# EAGLE library part MAX8713 (library diode-20CJQ030)
Maxim's MAX8713 Simplified Multichemistry SMBus Battery Charger Description: The MAX8713 multichemistry battery charger simplifies construction of smart chargers with a minimum number of external components. It uses the Intel System Management Bus (SMBus?) to control the charge voltage and charge current. High efficiency is achieved through the use of a constant off-time step-down topology with synchronous rectification. The MAX8713 charges one to four lithium-ion (Li+) cells in series and delivers over 2A charge current?scalable with the sense resistor. The MAX8713 drives n-channel MOSFETs for improved efficiency and reduced cost. A low-offset charge-current-sense amplifier provides highaccuracy charge current with small sense resistors. The MAX8713 is available in a space-saving 24-pin 4mm x 4mm thin QFN package and operates over the extended (-40°C to +85°C) temperature range. An evaluation kit is available to reduce design time. Features: Over 2A Charge Current Intel SMBus 2-Wire Serial Interface ±0.6% Charge Voltage Accuracy 11-Bit Charge Voltage Resolution 6-Bit Charge Current Resolution Adjustable Switching Frequency +8V to +28V Input Voltage Range Cycle-By-Cycle Current Limit Charges Any Battery Chemistry (Li+, NiCd, NiMH,Lead Acid, etc.) Small 24-Pin TQFN Applications: Handset Car Kits Digital Cameras PDAs and Tablet Computers Notebook Computers Portable Equipment with Rechargeable Batteries Please send any comments to: messi@users.sourceforge.net
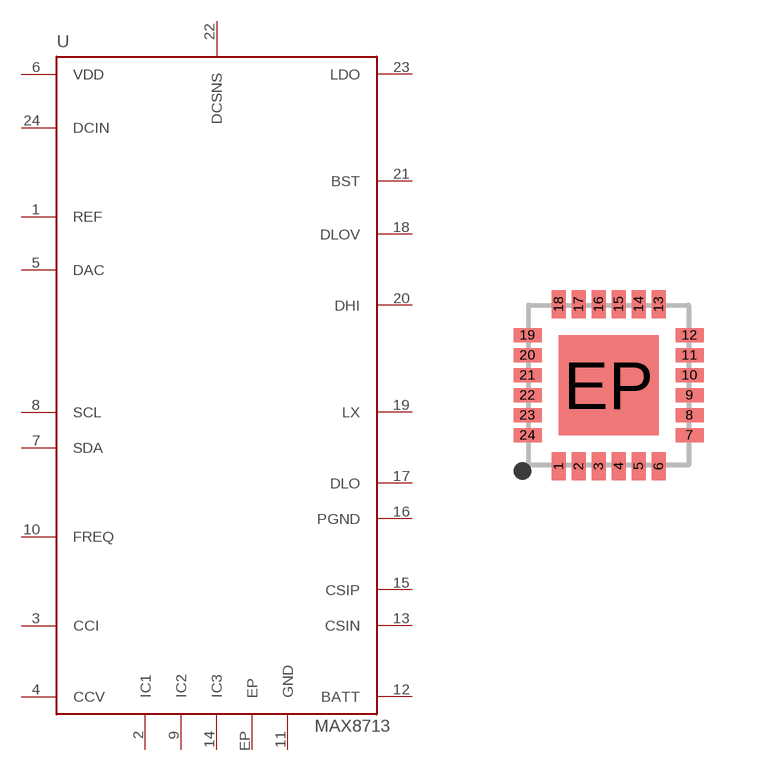
[diagram p142: symbol with the pads of TQFN24; footprint TQFN24]

Designator prefix U

## MAX8713  [TQFN24]
1  REF  out
2  IC1  pas
3  CCI  in
4  CCV  in
5  DAC  out
6  VDD  pwr
7  SDA
8  SCL  in
9  IC2  pas
10  FREQ  in
11  GND  pwr
12  BATT  in
13  CSIN  in
14  IC3  pas
15  CSIP  in
16  PGND  pwr
17  DLO  out
18  DLOV  in
19  LX  in
20  DHI  out
21  BST  out
22  DCSNS  in
23  LDO  out
24  DCIN  pwr
EP  EP  pas

## Footprint TQFN24 (pad centres in mm)
Maxim's Package TQFN24 e.g. MAX8713
smd 0.35 x 0.7: 1 -1.25,-2.025; 2 -0.75,-2.025; 3 -0.25,-2.025; 4 0.25,-2.025; 5 0.75,-2.025; 6 1.25,-2.025; 13 1.25,2.025; 14 0.75,2.025; 15 0.25,2.025; 16 -0.25,2.025; 17 -0.75,2.025; 18 -1.25,2.025
smd 0.7 x 0.35: 7 2.025,-1.25; 8 2.025,-0.75; 9 2.025,-0.25; 10 2.025,0.25; 11 2.025,0.75; 12 2.025,1.25; 19 -2.025,1.25; 20 -2.025,0.75; 21 -2.025,0.25; 22 -2.025,-0.25; 23 -2.025,-0.75; 24 -2.025,-1.25
smd 2.5 x 2.5: EP 0,0